# Altium footprint library LED_switch.PcbLib: 1 footprints
Each footprint in its own frame and in the unit in brackets; x right, y up, seen from the top. Pads: shape width x height; smd on the part's side, far side on the other; paste and mask are expansions set on the pad; w line width, h text height; cw(c..) or ccw(c..) is an arc to the next point about the centre after c.
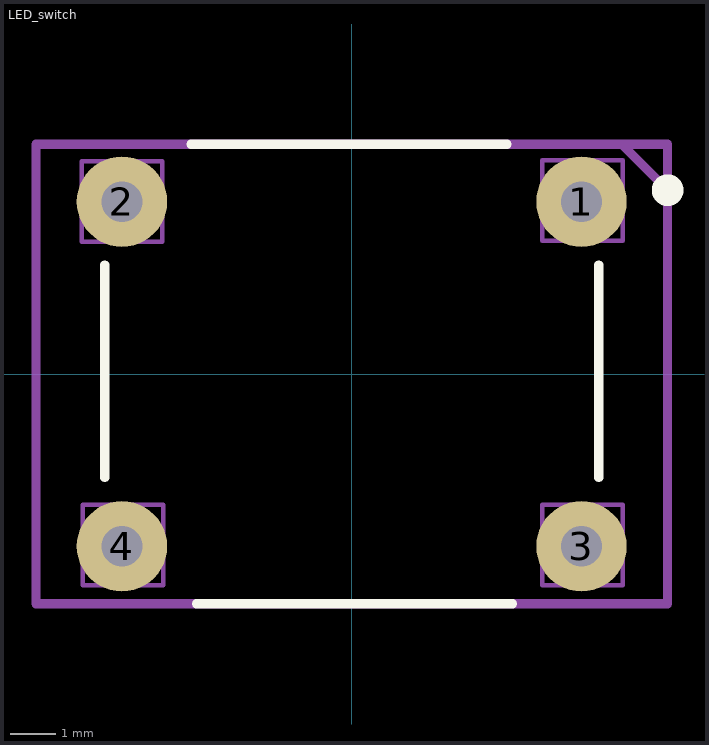
[diagram p0: the footprint, top view; thin cyan lines are the x and y axes]

## LED_switch [mm]
pads (4):
  round 2 hole 0.9: 1(5.08,3.81) 2(-5.08,3.81) 3(5.08,-3.81) 4(-5.08,-3.81)
Top Overlay:
  circle w0.5: c6.985,4.064 r0.1
  lines w0.2: -5.461,-2.286 -5.461,2.413 ; -3.556,5.08 3.429,5.08 ; -3.429,-5.08 3.556,-5.08 ; 5.461,-2.286 5.461,2.413
Mechanical 3:
  lines w0.2: -6.985,-5.08 6.985,-5.08 6.985,4.064 5.969,5.08 -6.985,5.08 -6.985,-5.08
Mechanical 5:
  lines w0.1: -5.969,2.921 -4.191,2.921 -4.191,4.699 -5.969,4.699 -5.969,2.921 ; -5.951,-4.669 -4.173,-4.669 -4.173,-2.891 -5.951,-2.891 -5.951,-4.669 ; 4.209,-4.669 5.987,-4.669 5.987,-2.891 4.209,-2.891 4.209,-4.669 ; 4.209,2.951 5.987,2.951 5.987,4.729 4.209,4.729 4.209,2.951
Mechanical 7:
  lines w0.2: -6.985,-5.08 6.985,-5.08 6.985,5.08 -6.985,5.08 -6.985,-5.08
Mechanical 9:
  text "'.Designator'" at -5.944,-0.271 h1.02
3D body: height 0.25, standoff 0, extent -6.985,-5.08 6.985,5.08
3D body "4FTH9XX.stp": height 10.4, standoff -3.9, extent -5.475,-5 5.475,5